# Altium footprint library 16VQFN_TI.PcbLib: 1 footprints
Each footprint in its own frame and in the unit in brackets; x right, y up, seen from the top. Pads: shape width x height; smd on the part's side, far side on the other; paste and mask are expansions set on the pad; w line width, h text height; cw(c..) or ccw(c..) is an arc to the next point about the centre after c.
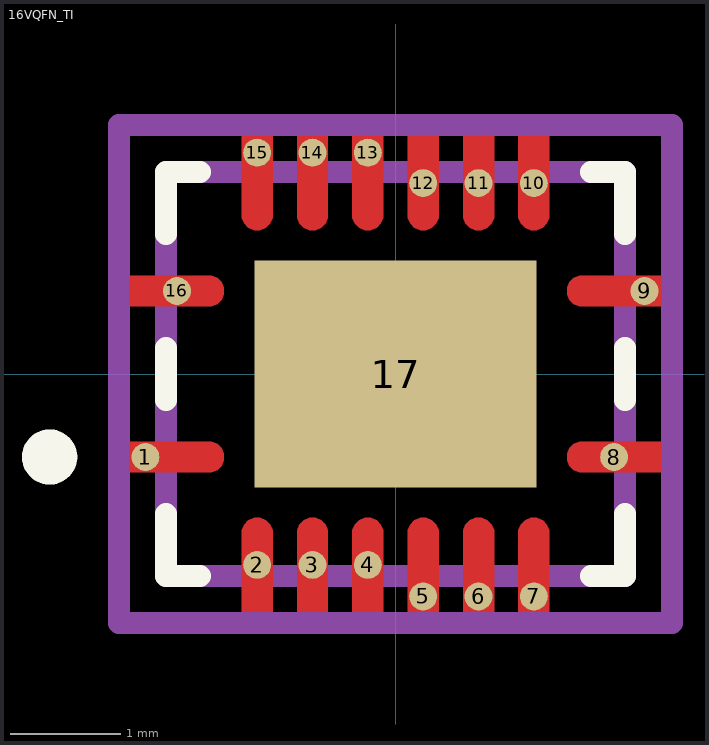
[diagram p0: the footprint, top view; thin cyan lines are the x and y axes]

## 16VQFN_TI [mm]
pads (17):
  round 0.252 smd paste-1000 mask+0: 1(-2.26,-0.75) 2(-1.25,-1.725) 3(-0.75,-1.725) 4(-0.25,-1.725) 5(0.25,-2.01) 6(0.75,-2.01) 7(1.25,-2.01) 8(1.975,-0.75) 9(2.25,0.75) 10(1.25,1.725) 11(0.75,1.725) 12(0.25,1.725) 13(-0.25,2) 14(-0.75,2) 15(-1.25,2) 16(-1.975,0.75)
  rect 2.55x2.05 smd paste-1000 mask+0: 17(0,0)
Top Layer:
  region: -2.4,0.89 -1.69,0.89 -1.662,0.89 -1.611,0.869 -1.571,0.829 -1.55,0.778 -1.55,0.75 -1.55,0.722 -1.571,0.671 -1.611,0.631 -1.662,0.61 -1.69,0.61 -2.4,0.61
  region: 2.4,0.61 1.69,0.61 1.662,0.61 1.611,0.631 1.571,0.671 1.55,0.722 1.55,0.75 1.55,0.778 1.571,0.829 1.611,0.869 1.662,0.89 1.69,0.89 2.4,0.89
  region: 2.4,-0.89 1.69,-0.89 1.662,-0.89 1.611,-0.869 1.571,-0.829 1.55,-0.778 1.55,-0.75 1.55,-0.722 1.571,-0.671 1.611,-0.631 1.662,-0.61 1.69,-0.61 2.4,-0.61
  region: -1.11,2.15 -1.11,1.44 -1.11,1.412 -1.131,1.361 -1.171,1.321 -1.222,1.3 -1.25,1.3 -1.278,1.3 -1.329,1.321 -1.369,1.361 -1.39,1.412 -1.39,1.44 -1.39,2.15
  region: -0.61,2.15 -0.61,1.44 -0.61,1.412 -0.631,1.361 -0.671,1.321 -0.722,1.3 -0.75,1.3 -0.778,1.3 -0.829,1.321 -0.869,1.361 -0.89,1.412 -0.89,1.44 -0.89,2.15
  region: -0.11,2.15 -0.11,1.44 -0.11,1.412 -0.131,1.361 -0.171,1.321 -0.222,1.3 -0.25,1.3 -0.278,1.3 -0.329,1.321 -0.369,1.361 -0.39,1.412 -0.39,1.44 -0.39,2.15
  region: 0.39,2.15 0.39,1.44 0.39,1.412 0.369,1.361 0.329,1.321 0.278,1.3 0.25,1.3 0.222,1.3 0.171,1.321 0.131,1.361 0.11,1.412 0.11,1.44 0.11,2.15
  region: 0.89,2.15 0.89,1.44 0.89,1.412 0.869,1.361 0.829,1.321 0.778,1.3 0.75,1.3 0.722,1.3 0.671,1.321 0.631,1.361 0.61,1.412 0.61,1.44 0.61,2.15
  region: 1.39,2.15 1.39,1.44 1.39,1.412 1.369,1.361 1.329,1.321 1.278,1.3 1.25,1.3 1.222,1.3 1.171,1.321 1.131,1.361 1.11,1.412 1.11,1.44 1.11,2.15
  region: 1.11,-2.15 1.11,-1.44 1.11,-1.412 1.131,-1.361 1.171,-1.321 1.222,-1.3 1.25,-1.3 1.278,-1.3 1.329,-1.321 1.369,-1.361 1.39,-1.412 1.39,-1.44 1.39,-2.15
  region: 0.61,-2.15 0.61,-1.44 0.61,-1.412 0.631,-1.361 0.671,-1.321 0.722,-1.3 0.75,-1.3 0.778,-1.3 0.829,-1.321 0.869,-1.361 0.89,-1.412 0.89,-1.44 0.89,-2.15
  region: 0.11,-2.15 0.11,-1.44 0.11,-1.412 0.131,-1.361 0.171,-1.321 0.222,-1.3 0.25,-1.3 0.278,-1.3 0.329,-1.321 0.369,-1.361 0.39,-1.412 0.39,-1.44 0.39,-2.15
  region: -0.39,-2.15 -0.39,-1.44 -0.39,-1.412 -0.369,-1.361 -0.329,-1.321 -0.278,-1.3 -0.25,-1.3 -0.222,-1.3 -0.171,-1.321 -0.131,-1.361 -0.11,-1.412 -0.11,-1.44 -0.11,-2.15
  region: -0.89,-2.15 -0.89,-1.44 -0.89,-1.412 -0.869,-1.361 -0.829,-1.321 -0.778,-1.3 -0.75,-1.3 -0.722,-1.3 -0.671,-1.321 -0.631,-1.361 -0.61,-1.412 -0.61,-1.44 -0.61,-2.15
  region: -1.39,-2.15 -1.39,-1.44 -1.39,-1.412 -1.369,-1.361 -1.329,-1.321 -1.278,-1.3 -1.25,-1.3 -1.222,-1.3 -1.171,-1.321 -1.131,-1.361 -1.11,-1.412 -1.11,-1.44 -1.11,-2.15
  region: -2.4,-0.61 -1.69,-0.61 -1.662,-0.61 -1.611,-0.631 -1.571,-0.671 -1.55,-0.722 -1.55,-0.75 -1.55,-0.778 -1.571,-0.829 -1.611,-0.869 -1.662,-0.89 -1.69,-0.89 -2.4,-0.89
Top Overlay:
  circle w0.25: c-3.125,-0.75 r0.125
  lines w0.2: -2.075,-1.265 -2.075,-1.825 -1.765,-1.825 ; -2.075,-0.235 -2.075,0.235 ; -2.075,1.265 -2.075,1.825 -1.765,1.825 ; 1.765,-1.825 2.075,-1.825 2.075,-1.265 ; 1.765,1.825 2.075,1.825 2.075,1.265 ; 2.075,-0.235 2.075,0.235
Top Paste:
  drawing of 20 lines, arcs and shapes, not listed
Top 3D Body:
  lines w0.2: -2.075,-1.825 -2.075,1.825 2.075,1.825 2.075,-1.825 -2.075,-1.825
Top Courtyard:
  lines w0.2: -2.5,-2.25 -2.5,2.25 2.5,2.25 2.5,-2.25 -2.5,-2.25
Top Assembly:
  lines w0.2: -2.5,-2.25 -2.5,2.25 2.5,2.25 2.5,-2.25 -2.5,-2.25
  text ".Designator" at 0,0 h1
Top Component Center:
  lines w0.1: -0.675,0 0.675,0 ; 0,-0.675 0,0.675
3D body "IC_Texas_Instruments_SN74AVC4T245RGYR_eec.STEP": height 0.25, standoff 0, extent -2.5,-2.25 2.5,2.25